# EAGLE library part DDS_MODULE:AD9850 (library dds-module-ad9850)
AD9850 DDS Module Created by Johan Adler, October 2014. Not tested on an actual PCB, so I can't promise anything. Also please check the actual pinout of your specific module. Mine are of the low price eBay version, and the pinout is correct for my modules. The placement of VCC over data pins over GND on the symbol is meant to make it easier to set it up for default serial transfer. For this you would connect D0 and D1 to VCC, D2 to GND. IOUT is analog signal out, sinus wave, QOUT is square wave. Outputs 1 are normal, outputs 2 are inverted.
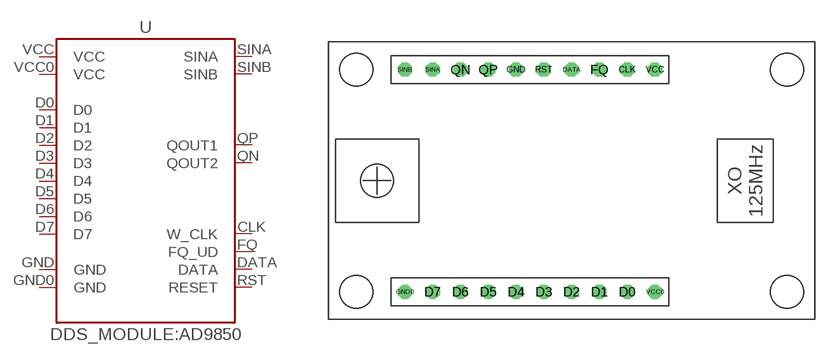
[diagram p0: symbol with the pads of DDS_AD9850; footprint DDS_AD9850]

Designator prefix U

## DDS_MODULE:AD9850DDS_MODULE (VALUE: AD9850 DDS Module)  [DDS_AD9850]
CLK  W_CLK  in
D0  D0  in
D1  D1  in
D2  D2  in
D3  D3  in
D4  D4  in
D5  D5  in
D6  D6  in
D7  D7  in
DATA  DATA  in
FQ  FQ_UD  in
GND  GND  pwr
GND0  GND  pwr
QN  QOUT2  out
QP  QOUT1  out
RST  RESET
SINA  SINA  out
SINB  SINB  out
VCC  VCC  pwr
VCC0  VCC  pwr

## Footprint DDS_AD9850 (pad centres in mm)
AD9850 DDS module
drill 0.8 octagon: CLK 5.08,10.16; D0 5.08,-10.16; D1 2.54,-10.16; D2 0,-10.16; D3 -2.54,-10.16; D4 -5.08,-10.16; D5 -7.62,-10.16; D6 -10.16,-10.16; D7 -12.7,-10.16; DATA 0,10.16; FQ 2.54,10.16; GND -5.08,10.16; GND0 -15.24,-10.16; QN -10.16,10.16; QP -7.62,10.16; RST -2.54,10.16; SINA -12.7,10.16; SINB -15.24,10.16; VCC 7.62,10.16; VCC0 7.62,-10.16